# EAGLE library part 6N7 (library radiotubes)
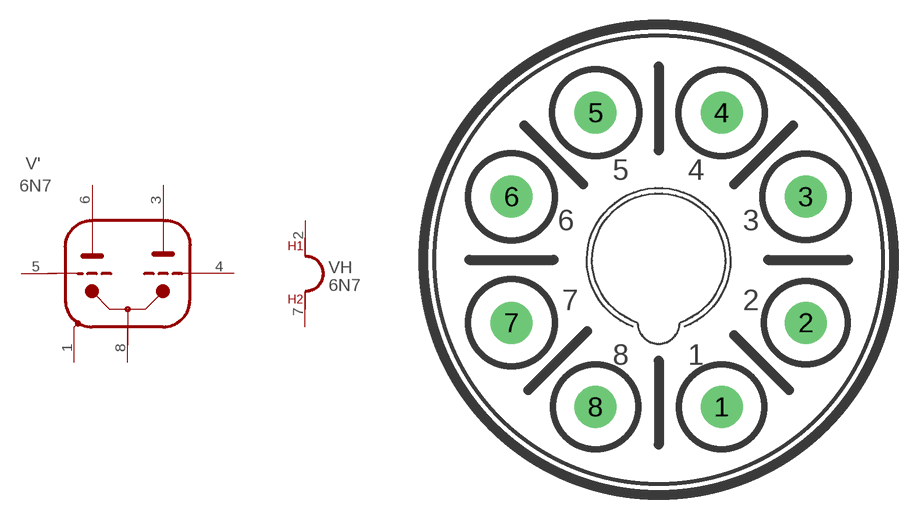
[diagram p137: symbol with the pads of OKTAL; footprint OKTAL]

Designator prefix V; gates '=6N7 H=HEAT/1

## 6N7  [OKTAL]
1  ':M  pas
2  H:H1  pas
3  ':AII  pas
4  ':GII  pas
5  ':GI  pas
6  ':AI  pas
7  H:H2  pas
8  ':K  pas

## Footprint OKTAL (pad centres in mm)
drill 1.27 pad 2.54: 1 3.81,-8.89; 2 8.89,-3.81; 3 8.89,3.81; 4 3.81,8.89; 5 -3.81,8.89; 6 -8.89,3.81; 7 -8.89,-3.81; 8 -3.81,-8.89